# Altium footprint library 研发中心PCB库文件.PcbLib: 333 footprints (part 5 of 21)
Each footprint in its own frame and in the unit in brackets; x right, y up, seen from the top. Pads: shape width x height; smd on the part's side, far side on the other; paste and mask are expansions set on the pad; w line width, h text height; cw(c..) or ccw(c..) is an arc to the next point about the centre after c.
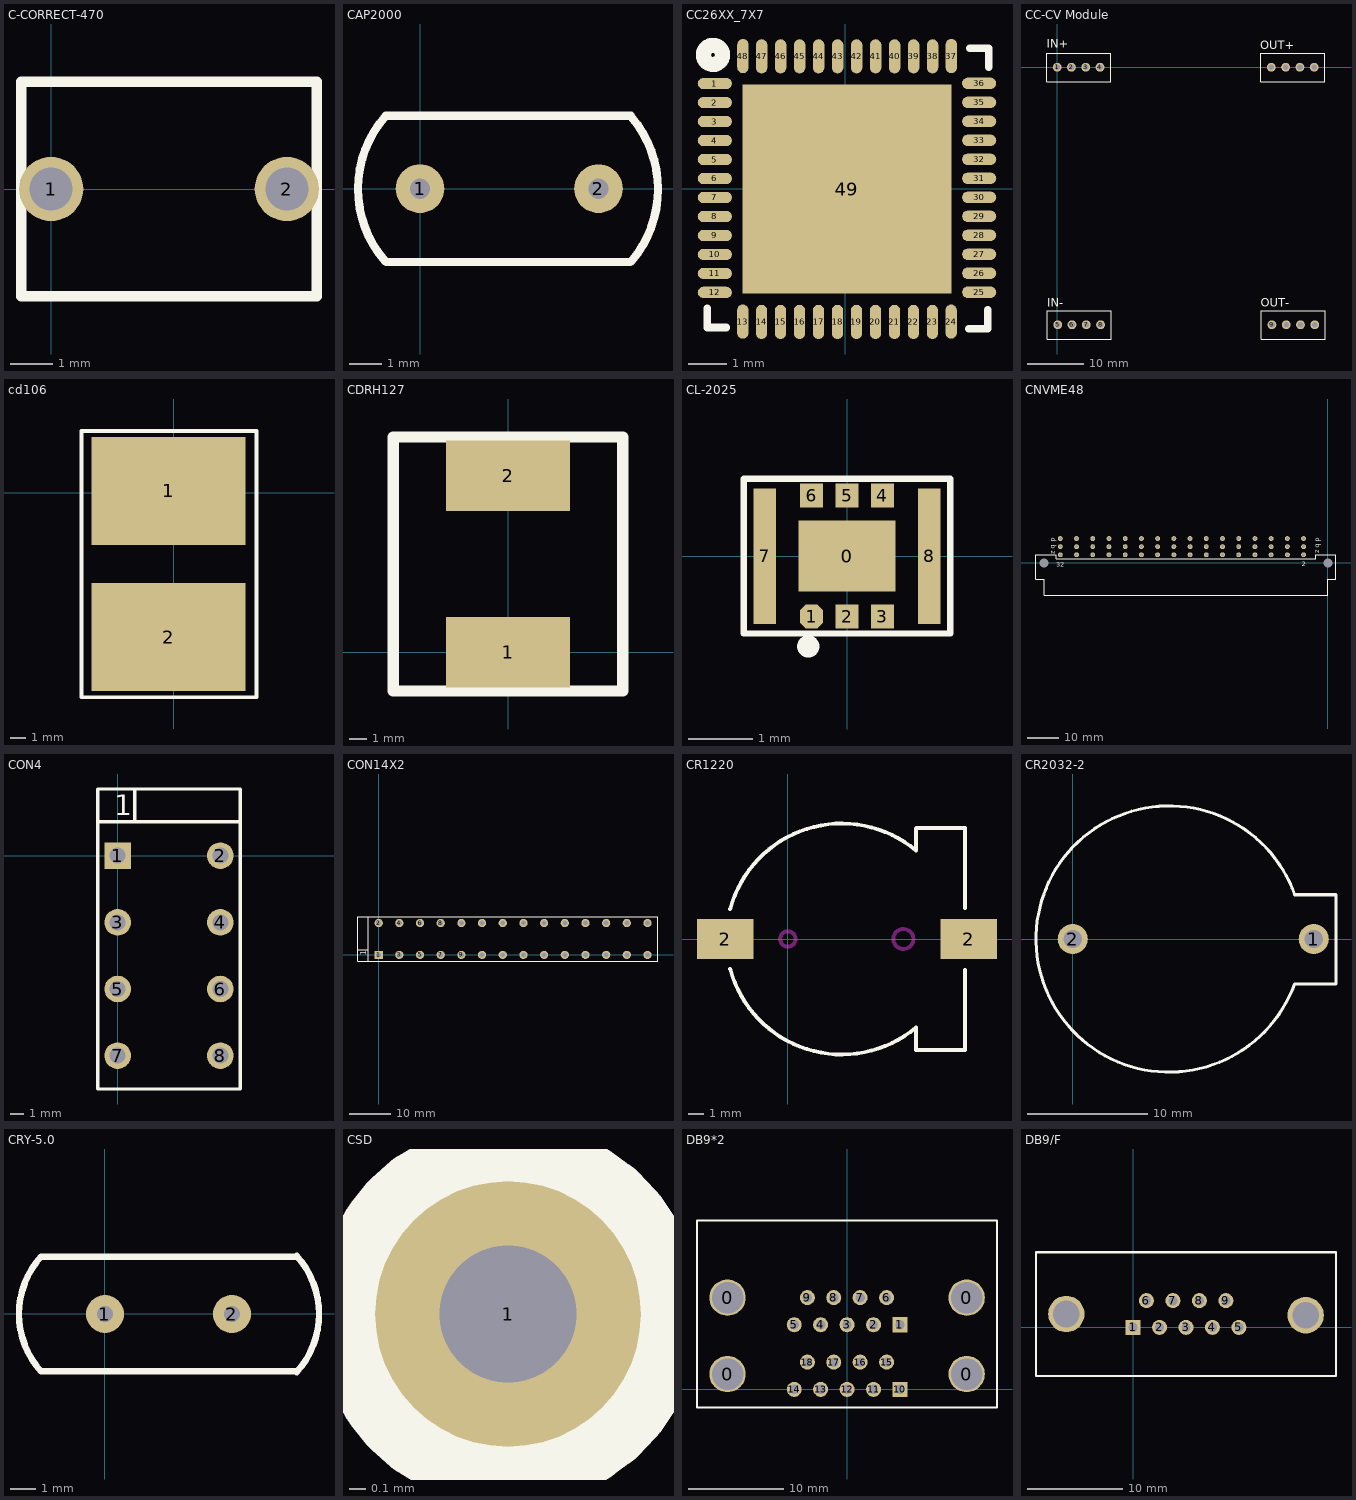
[diagram p4: the footprints below, top view; thin cyan lines are the x and y axes]

## C-CORRECT-470 [mil]
pads (2):
  round 60 hole 40: 1(0,0) 2(220,0)
Top Overlay:
  lines w10: -28,-100 248,-100 248,100 -28,100 -28,-100

## CAP2000 [mm]
pads (2):
  round 1.5 hole 0.62: 1(0,0) 2(5.5,0)
Top Overlay:
  lines w0.254: -1.071,-2.239 cw(c1.477,-0.006) -1.054,2.246 ; -1.041,-2.25 6.477,-2.261 ; -1,2.25 6.5,2.25 ; 6.509,-2.241 ccw(c3.902,-0.009) 6.513,2.219

## CC26XX_7X7 [mm]
pads (49):
  oval 0.9x0.3 smd: 1(-3.437,2.769) 2(-3.437,2.269) 3(-3.437,1.769) 4(-3.437,1.269) 5(-3.437,0.769) 6(-3.437,0.269) 7(-3.437,-0.231) 8(-3.437,-0.731) 9(-3.437,-1.231) 10(-3.437,-1.731) 11(-3.437,-2.231) 12(-3.437,-2.731) 25(3.523,-2.726) 26(3.523,-2.226) 27(3.523,-1.726) 28(3.523,-1.226) 29(3.523,-0.726) 30(3.523,-0.226) 31(3.523,0.274) 32(3.523,0.774) 33(3.523,1.274) 34(3.523,1.774) 35(3.523,2.274) 36(3.522,2.774)
  oval 0.3x0.9 smd: 13(-2.701,-3.5) 14(-2.207,-3.507) 15(-1.707,-3.507) 16(-1.207,-3.507) 17(-0.707,-3.507) 18(-0.207,-3.507) 19(0.293,-3.507) 20(0.793,-3.507) 21(1.293,-3.507) 22(1.793,-3.507) 23(2.293,-3.507) 24(2.786,-3.5) 37(2.789,3.492) 38(2.296,3.485) 39(1.796,3.485) 40(1.296,3.485) 41(0.796,3.485) 42(0.296,3.485) 43(-0.204,3.485) 44(-0.704,3.485) 45(-1.204,3.485) 46(-1.704,3.485) 47(-2.204,3.485) 48(-2.697,3.492)
  rect 5.5x5.5 smd: 49(0.043,-0.007)
Top Overlay:
  circle w0.4: c-3.485,3.523 r0.251
  lines w0.2: -3.634,-3.153 -3.634,-3.653 -3.134,-3.653 ; 3.251,-3.69 3.751,-3.69 3.751,-3.19 ; 3.271,3.701 3.771,3.701 3.771,3.201

## CC-CV Module [mil]
pads (16):
  round 62 hole 40: 1(-1.57,0) 2(98.43,0) 3(198.43,0) 4(298.43,0) 5(2.36,-1803.15) 6(102.36,-1803.15) 7(202.36,-1803.15) 8(302.36,-1803.15) 9(1502.36,-1803.15) 10(1602.36,-1803.15) 11(1702.36,-1803.15) 12(1802.36,-1803.15) 13(1498.43,0) 14(1598.43,0) 15(1698.43,0) 16(1798.43,0)
Top Overlay:
  lines w7.87: -75.59,-100 -75.59,98.43 373.23,98.43 373.23,-100 -75.59,-100 ; -71.65,-1903.15 377.17,-1903.15 377.17,-1704.72 -71.65,-1704.72 -71.65,-1903.15 ; 1424.41,-100 1873.23,-100 1873.23,98.43 1424.41,98.43 1424.41,-100 ; 1428.35,-1903.15 1428.35,-1704.72 1877.17,-1704.72 1877.17,-1903.15 1428.35,-1903.15
  text "IN+" at -74.8,137.8 h60
  text "OUT+" at 1421.26,125.98 h60
  text "OUT-" at 1425.2,-1677.17 h60
  text "IN-" at -70.87,-1677.17 h60

## cd106 [mm]
pads (2):
  rect 10x7 smd: 1(-0.322,0.111) 2(-0.322,-9.389)
Top Overlay:
  lines w0.254: -6,-13.3 -6,4 5.4,4 5.4,-13.3 -6,-13.3

## CDRH127 [mm]
pads (2):
  rect 7x4 smd: 1(0,0) 2(0,10)
Top Overlay:
  lines w0.635: -6.5,-2.2 -6.5,12.2 6.5,12.2 6.5,-2.2 -6.5,-2.2

## CL-2025 [mm]
pads (9):
  rect 1.5x1.1 smd: 0(0,0)
  oct 0.35x0.375 smd: 1(-0.55,-0.937)
  rect 0.35x0.375 smd: 2(0,-0.937) 3(0.55,-0.938) 4(0.55,0.937) 5(0,0.937) 6(-0.55,0.937)
  rect 0.35x2.1 smd: 7(-1.275,0) 8(1.275,0)
Top Overlay:
  circle w0.254: c-0.6,-1.4 r0.045
  lines w0.1: -1.6,-1.2 -1.6,1.2 1.6,1.2 1.6,-1.2 -1.6,-1.2

## CNVME48 [mil] "9062486901"
pads (50):
  round 60 hole 37: B2(-300,200) B4(-500,200) B6(-700,200) B8(-900,200) B10(-1100,200) B12(-1300,200) B14(-1500,200) B16(-1700,200) B18(-1900,200) B20(-2100,200) B22(-2300,200) B24(-2500,200) B26(-2700,200) B28(-2900,200) B30(-3100,200) B32(-3300,200) D2(-300,300) D4(-500,300) D6(-700,300) D8(-900,300) D10(-1100,300) D12(-1300,300) D14(-1500,300) D16(-1700,300) D18(-1900,300) D20(-2100,300) D22(-2300,300) D24(-2500,300) D26(-2700,300) D28(-2900,300) D30(-3100,300) D32(-3300,300) Z2(-300,100) Z4(-500,100) Z6(-700,100) Z8(-900,100) Z10(-1100,100) Z12(-1300,100) Z14(-1500,100) Z16(-1700,100) Z18(-1900,100) Z20(-2100,100) Z22(-2300,100) Z24(-2500,100) Z26(-2700,100) Z28(-2900,100) Z30(-3100,100) Z32(-3300,100)
  round 50 hole 110: ""(-3500,0) ""(0,0)
Top Overlay:
  lines w10: -3600,-200 -3500,-200 -3500,-400 0,-400 0,-200 100,-200 100,100 -150,100 -150,50 -3350,50 -3350,100 -3600,100 -3600,-200
  text "2" at -320,-40 h60
  text "32" at -3350,-50 h60
  text "z" at -3412.5,150 h60
  text "b" at -3412.5,225 h60
  text "d" at -3412.5,312.5 h60
  text "z" at -150,162.5 h60
  text "b" at -150,237.5 h60
  text "d" at -150,312.5 h60

## CON4 [mm]
pads (8):
  rect 2x2 hole 1.2: 1(0,0)
  round 2 hole 1.2: 2(7.7,0) 3(0,-5) 4(7.7,-5) 5(0,-10) 6(7.7,-10) 7(0,-15) 8(7.7,-15)
Top Overlay:
  lines w0.254: -1.5,-17.5 9.2,-17.5 ; -1.5,-17.399 -1.5,5 9.2,5 9.2,-17.399 ; -1.5,2.54 9.2,2.54 ; 1.27,2.54 1.27,5
  text "1" at -0.254,3.048 h1.52

## CON14X2 [mm]
pads (28):
  rect 2x2 hole 1.2: 1(0,0)
  round 2 hole 1.2: 2(0,7.7) 3(5,0) 4(5,7.7) 5(10,0) 6(10,7.7) 7(15,0) 8(15,7.7) 9(20,0) 10(20,7.7) 11(25,0) 12(25,7.7) 13(30,0) 14(30,7.7) 15(35,0) 16(35,7.7) 17(40,0) 18(40,7.7) 19(45,0) 20(45,7.7) 21(50,0) 22(50,7.7) 23(55,0) 24(55,7.7) 25(60,0) 26(60,7.7) 27(65,0) 28(65,7.7)
Top Overlay:
  lines w0.254: -5,1.27 -2.54,1.27 ; -2.54,-1.5 -2.54,9.2 ; 35,-1.5 57.54,-1.511 67.54,-1.511 67.54,9.189 57.54,9.189 35,9.2 ; 37.5,-1.5 -5,-1.5 -5,9.2 37.5,9.2
  text "1" at -3.048,-0.254 h1.52

## CR1220 [mm]
pads (2):
  rect 3.66x2.6 smd: 2(-4.07,0) 2(11.75,0)
Top Overlay:
  lines w0.254: -3.744,-1.941 ccw(c3.5,0) 8.321,-5.745 8.321,-7.2 11.5,-7.2 11.5,-2 ; -3.744,1.941 cw(c3.5,0) 8.321,5.745 8.321,7.178 ; 8.343,7.2 11.5,7.2 11.5,2
Keep-Out Layer:
  circle w0.254: c7.5,0 r0.65
  circle w0.254: c0,0 r0.5

## CR2032-2 [mm]
pads (2):
  round 2.5 hole 1.524: 1(20,0) 2(0,0)
Top Overlay:
  lines w0.254: 18.398,-3.74 cw(c8,0) 18.424,3.666 ; 18.425,-3.75 21.85,-3.75 21.85,0 ; 18.45,3.675 21.85,3.675 21.85,-0.075

## CRY-5.0 [mm]
pads (2):
  round 1.5 hole 0.62: 1(0.004,-0.004) 2(5.004,-0.004)
Top Overlay:
  lines w0.254: -2.515,-2.27 cw(c0.004,-0.004) -2.515,2.263 ; -2.496,-2.254 7.504,-2.254 ; -2.496,2.246 7.504,2.246 ; 7.555,-2.3 ccw(c5.004,-0.004) 7.555,2.293

## CSD [mil]
pads (1):
  round 62 hole 32: 1(0,0)
Top Overlay:
  circle w20: c0,0 r35

## DB9*2 [mil]
pads (22):
  round 150 hole 130: 0(-493,62.99) 0(-493,377.95) 0(493,62.99) 0(493,377.95)
  rect 62x62 hole 38: 1(218,266.14) 10(218,0)
  round 62 hole 38: 2(109,266.14) 3(0,266.14) 4(-109,266.14) 5(-218,266.14) 6(163,377.95) 7(54,377.95) 8(-55,377.95) 9(-164,377.95) 11(109,0) 12(0,0) 13(-109,0) 14(-218,0) 15(163,111.81) 16(54,111.81) 17(-55,111.81) 18(-164,111.81)
Top Overlay:
  lines w8: -618,696.06 -618,-75 618,-75
  lines w10: -618.87,696.06 617.13,696.06 ; 618,-75 618,696.06

## DB9/F [mil]
pads (11):
  rect 62x62 hole 38: 1(0,0)
  round 62 hole 38: 2(109,0) 3(218,0) 4(327,0) 5(436,0) 6(55,110) 7(164,110) 8(273,110) 9(382,110)
  round 150 hole 110: ""(-275,55) ""(711,50)
Top Overlay:
  lines w8: -400,-200 836,-200 836,310
  lines w10: -400,-200 -400,310 836,310